# EAGLE library part GD25LQ80CEIGR (library MotionDetectorCamera)
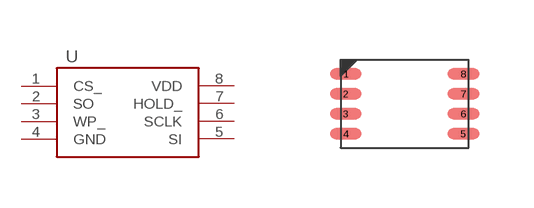
[diagram p5: symbol with the pads of GD25LQ80CEIGR; footprint GD25LQ80CEIGR]

Designator prefix U

## GD25LQ80CEIGR (MFG: GigaDevice; PN: GD25LQ80CEIGR)  [GD25LQ80CEIGR]
1  CS_
2  SO
3  WP_
4  GND
5  SI
6  SCLK
7  HOLD_
8  VDD

## Footprint GD25LQ80CEIGR (pad centres in mm)
8-SON (DFN), 0.50 mm pitch, 2.00 X 3.00 X 0.60 mm body 8-pin SON (DFN) package with 0.50 mm pitch with body size 2.00 X 3.00 X 0.60 mm
smd 0.788 x 0.27: 1 -1.471,0.75; 2 -1.471,0.25; 3 -1.471,-0.25; 4 -1.471,-0.75; 5 1.471,-0.75; 6 1.471,-0.25; 7 1.471,0.25; 8 1.471,0.75